# Altium integrated library Maxim Analog Switches and Multiplexers.IntLib: 11 symbols
Pins are listed as number, name and electrical type; pins without a type are passive.

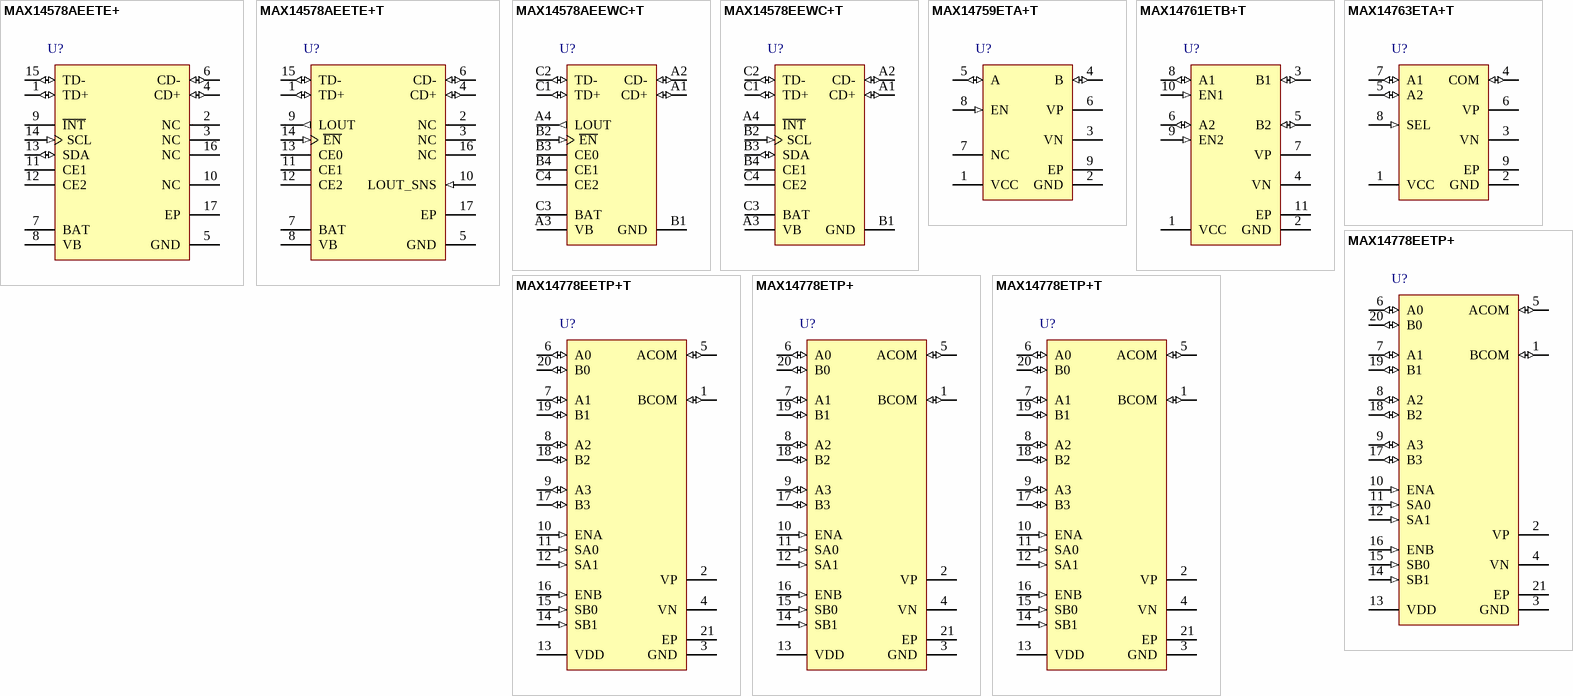
[diagram p0: symbols MAX14578AEETE+ to MAX14778ETP+T]

## MAX14578AEETE+
designator U?
USB Device Charger Detector, 16-Pin TQFN, -40°C to +85°C, Pb-Free; DatasheetVersion: Rev 1, Feb-2012; PackageVersion: revJ, 2010; PackageReference: T1633+5; PackageDescription: 16-Pin Thin Quad Flatpack, No Leads, 3 x 3 x 0.75 mm Body, 0.5 mm Pitch, TQFN, Pb-Free; Code_JEDEC: MO-220WEED-2; ComponentLink1Description: Manufacturer URL; ComponentLink1URL: http://www.maxim-ic.com; ComponentLink2Description: Datasheet; ComponentLink2URL: http://datasheets.maxim-ic.com/en/ds/MAX14578AE-MAX14578E.pdf; ComponentLink3Description: Package Specification; ComponentLink3URL: http://pdfserv.maxim-ic.com/package_dwgs/21-0136.PDF
footprint T1633+5_N (QFN, 16-Leads, Body 3x3mm, Pitch 0.5mm, Thermal Pad 1.1x1.1mm, IPC Medium Density)
footprint T1633+5_L (QFN, 16-Leads, Body 3x3mm, Pitch 0.5mm, Thermal Pad 1.1x1.1mm, IPC High Density)
footprint T1633+5_M (QFN, 16-Leads, Body 3x3mm, Pitch 0.5mm, Thermal Pad 1.1x1.1mm, IPC Low Density)
pins: 1 TD+ (io), 2 NC, 3 NC, 4 CD+ (io), 5 GND (power), 6 CD- (io), 7 BAT (power), 8 VB (power), 9 ~{INT} (oc), 10 NC, 11 CE1 (oc), 12 CE2 (oc), 13 SDA (io), 14 SCL (in), 15 TD- (io), 16 NC, 17 EP (power)

## MAX14578AEETE+T
designator U?
USB Device Charger Detector, 16-Pin TQFN, -40°C to +85°C, Pb-Free, Tape and Reel; DatasheetVersion: Rev 1, Feb-2012; PackageVersion: revJ, 2010; PackageReference: T1633+5; PackageDescription: 16-Pin Thin Quad Flatpack, No Leads, 3 x 3 x 0.75 mm Body, 0.5 mm Pitch, TQFN, Pb-Free; Code_JEDEC: MO-220WEED-2; ComponentLink1Description: Manufacturer URL; ComponentLink1URL: http://www.maxim-ic.com; ComponentLink2Description: Datasheet; ComponentLink2URL: http://datasheets.maxim-ic.com/en/ds/MAX14578AE-MAX14578E.pdf; ComponentLink3Description: Package Specification; ComponentLink3URL: http://pdfserv.maxim-ic.com/package_dwgs/21-0136.PDF
footprint T1633+5_N (QFN, 16-Leads, Body 3x3mm, Pitch 0.5mm, Thermal Pad 1.1x1.1mm, IPC Medium Density)
footprint T1633+5_L (QFN, 16-Leads, Body 3x3mm, Pitch 0.5mm, Thermal Pad 1.1x1.1mm, IPC High Density)
footprint T1633+5_M (QFN, 16-Leads, Body 3x3mm, Pitch 0.5mm, Thermal Pad 1.1x1.1mm, IPC Low Density)
pins: 1 TD+ (io), 2 NC, 3 NC, 4 CD+ (io), 5 GND (power), 6 CD- (io), 7 BAT (power), 8 VB (power), 9 LOUT (out), 10 LOUT_SNS (in), 11 CE1 (oc), 12 CE2 (oc), 13 CE0 (oc), 14 ~{EN} (in), 15 TD- (io), 16 NC, 17 EP (power)

## MAX14578AEEWC+T
designator U?
USB Device Charger Detector, 12-Pin WLP, -40°C to +85°C, Pb-Free, Tape and Reel; DatasheetVersion: Rev 1, Feb-2012; PackageVersion: revC, Apr-2010; PackageReference: W121A1+1; PackageDescription: 12-Bump Wafer-Level Package (WLP) 3x4 Bump, Full Array, 0.4 mm Pitch, Pb-Free; ComponentLink1Description: Manufacturer URL; ComponentLink1URL: http://www.maxim-ic.com; ComponentLink2Description: Datasheet; ComponentLink2URL: http://datasheets.maxim-ic.com/en/ds/MAX14578AE-MAX14578E.pdf; ComponentLink3Description: Package Specification; ComponentLink3URL: http://pdfserv.maxim-ic.com/package_dwgs/21-0449.PDF
footprint W121A1+1 (BGA, 12-Leads, Body 1.3x1.68mm, Pitch 0.4mm)
pins: A1 CD+ (io), A2 CD- (io), A3 VB (power), A4 LOUT (out), B1 GND (power), B2 ~{EN} (in), B3 CE0 (oc), B4 CE1 (oc), C1 TD+ (io), C2 TD- (io), C3 BAT (power), C4 CE2 (oc)

## MAX14578EEWC+T
designator U?
USB Device Charger Detector, 12-Pin WLP, -40°C to +85°C, Pb-Free, Tape and Reel; DatasheetVersion: Rev 1, Feb-2012; PackageVersion: revC, Apr-2010; PackageReference: W121A1+1; PackageDescription: 12-Bump Wafer-Level Package (WLP) 3x4 Bump, Full Array, 0.4 mm Pitch, Pb-Free; ComponentLink1Description: Manufacturer URL; ComponentLink1URL: http://www.maxim-ic.com; ComponentLink2Description: Datasheet; ComponentLink2URL: http://datasheets.maxim-ic.com/en/ds/MAX14578AE-MAX14578E.pdf; ComponentLink3Description: Package Specification; ComponentLink3URL: http://pdfserv.maxim-ic.com/package_dwgs/21-0449.PDF
footprint W121A1+1 (BGA, 12-Leads, Body 1.3x1.68mm, Pitch 0.4mm)
pins: A1 CD+ (io), A2 CD- (io), A3 VB (power), A4 ~{INT} (oc), B1 GND (power), B2 SCL (in), B3 SDA (io), B4 CE1 (oc), C1 TD+ (io), C2 TD- (io), C3 BAT (power), C4 CE2 (oc)

## MAX14759ETA+T
designator U?
Above and Below the Rails Low On-Resistance Analog Switch, Single SPST, 8-Pin TDFN-EP, -40°C to +85°C, Pb-Free, Tape and Reel; DatasheetVersion: Rev 0, Sep-2011; PackageVersion: revJ, 2009; PackageReference: T833+2; PackageDescription: 8-Pin Plastic Very Very Thin Dual Flatpack No Leads, Exposed Pad, 3 x 3 x 0.8 mm Body, TDFN-EP, Pb-Free; Code_JEDEC: MO-229-WEEC; ComponentLink1Description: Manufacturer URL; ComponentLink1URL: http://www.maxim-ic.com; ComponentLink2Description: Datasheet; ComponentLink2URL: http://datasheets.maxim-ic.com/en/ds/MAX14759-MAX14763.pdf; ComponentLink3Description: Package Specification; ComponentLink3URL: http://pdfserv.maxim-ic.com/package_dwgs/21-0137.PDF; ComponentLink4Description: URL Link1; ComponentLink4URL: http://pdfserv.maxim-ic.com/land_patterns/90-0059.PDF
footprint T833+2 (SON, 8-Leads, Body 3x3 mm, Pitch 0.65mm, Thermal Pad 2.35x1.58mm, Maxim Recommended)
pins: 1 VCC (power) "Positive-Supply Voltage Input. Bypass VCC to GND with a 0.1uF ceramic capacitor placed as close as possible to the device.", 2 GND (power) "Ground.", 3 VN "Negative Voltage Output. Bypass VN to GND with a 1uF ceramic capacitor placed as close as possible to the device.", 4 B (io) "Analog Switch Common Terminal.", 5 A (io) "Analog Switch Normally Open Terminal.", 6 VP "Positive Voltage Output. Bypass VP to GND with a 1uF ceramic capacitor placed as close as possible to the device.", 7 NC "No Connection. Leave unconnected.", 8 EN (in) "Switch Control Input. Drive EN high to close the switch or drive EN low to open the switch.", 9 EP "Exposed Pad. Internally connected to VN; not intended as an electrical connection. Leave exposed pad unconnected."

## MAX14761ETB+T
designator U?
Above and Below the Rails Low On-Resistance Analog Switch, Dual SPST, 10-Pin TDFN-EP, -40°C to +85°C, Pb-Free, Tape and Reel; DatasheetVersion: Rev 0, Sep-2011; PackageVersion: revJ, 2009; PackageReference: T1033+1; PackageDescription: 10-Pin Plastic Very Very Thin Dual Flatpack No Leads, Exposed Pad, 3 x 3 x 0.8 mm Body, TDFN-EP, Pb-Free; Code_JEDEC: MO-229-WEED-3; ComponentLink1Description: Manufacturer URL; ComponentLink1URL: http://www.maxim-ic.com; ComponentLink2Description: Datasheet; ComponentLink2URL: http://datasheets.maxim-ic.com/en/ds/MAX14759-MAX14763.pdf; ComponentLink3Description: Package Specification; ComponentLink3URL: http://pdfserv.maxim-ic.com/package_dwgs/21-0137.PDF
footprint T1033+1_V (SON, 10-Leads, Body 3x3mm, Pitch 0.5mm, Thermal Pad 2.35x1.58mm, Maxim Recommended)
pins: 1 VCC (power) "Positive-Supply Voltage Input. Bypass VCC to GND with a 0.1uF ceramic capacitor placed as close as possible to the device.", 2 GND (power) "Ground.", 3 B1 (io) "Analog Switch 1 Common Terminal.", 4 VN "Negative Voltage Output. Bypass VN to GND with a 1uF ceramic capacitor placed as close as possible to the device.", 5 B2 (io) "Analog Switch 2 Common Terminal.", 6 A2 (io) "Analog Switch 2 Normally Open Terminal.", 7 VP "Positive Voltage Output. Bypass VP to GND with a 1uF ceramic capacitor placed as close as possible to the device.", 8 A1 (io) "Analog Switch 1 Normally Closed Terminal.", 9 EN2 (in) "Switch 2 Control Input. Drive EN2 high to close switch 2 or drive EN2 low to open switch 2.", 10 EN1 (in) "Switch 1 Control Input. Drive EN1 high to open switch 1 or drive EN1 low to close switch 1.", 11 EP "Exposed Pad. Internally connected to VN; not intended as an electrical connection. Leave exposed pad unconnected."

## MAX14763ETA+T
designator U?
Above and Below the Rails Low On-Resistance Analog Switch, Single SPDT, 8-Pin TDFN-EP, -40°C to +85°C, Pb-Free, Tape and Reel; DatasheetVersion: Rev 0, Sep-2011; PackageVersion: revJ, 2009; PackageReference: T833+2; PackageDescription: 8-Pin Plastic Very Very Thin Dual Flatpack No Leads, Exposed Pad, 3 x 3 x 0.8 mm Body, TDFN-EP, Pb-Free; Code_JEDEC: MO-229-WEEC; ComponentLink1Description: Manufacturer URL; ComponentLink1URL: http://www.maxim-ic.com; ComponentLink2Description: Datasheet; ComponentLink2URL: http://datasheets.maxim-ic.com/en/ds/MAX14759-MAX14763.pdf; ComponentLink3Description: Package Specification; ComponentLink3URL: http://pdfserv.maxim-ic.com/package_dwgs/21-0137.PDF; ComponentLink4Description: URL Link1; ComponentLink4URL: http://pdfserv.maxim-ic.com/land_patterns/90-0059.PDF
footprint T833+2 (SON, 8-Leads, Body 3x3 mm, Pitch 0.65mm, Thermal Pad 2.35x1.58mm, Maxim Recommended)
pins: 1 VCC (power) "Positive-Supply Voltage Input. Bypass VCC to GND with a 0.1uF ceramic capacitor placed as close as possible to the device.", 2 GND (power) "Ground.", 3 VN "Negative Voltage Output. Bypass VN to GND with a 1uF ceramic capacitor placed as close as possible to the device.", 4 COM (io) "Analog Switch Common Terminal.", 5 A2 (io) "Analog Switch 2 Normally Open Terminal.", 6 VP "Positive Voltage Output. Bypass VP to GND with a 1uF ceramic capacitor placed as close as possible to the device.", 7 A1 (io) "Analog Switch 1 Normally Closed Terminal.", 8 SEL (in) "Switch Control Input. Drive SEL low to connect the COM terminal to A1 or drive SEL high to connect the COM terminal to A2.", 9 EP "Exposed Pad. Internally connected to VN; not intended as an electrical connection. Leave exposed pad unconnected."

## MAX14778EETP+
designator U?
Dual +/-25V Above and Below the Rails 4:1 Analog Multiplexer, 20-Pin TQFN, -40°C to +85°C, Pb-Free; DatasheetVersion: Rev 0, Jun-2011; PackageVersion: revO, 2011; PackageReference: T2055+4; PackageDescription: 20-Pin Thin Quad Flatpack, No Leads, 5 x 5 x 0.75 mm Body, 0.65 mm Pitch, TQFN, Pb-Free; Code_JEDEC: MO-220WHHC; ComponentLink1Description: Manufacturer URL; ComponentLink1URL: http://www.maxim-ic.com; ComponentLink2Description: Datasheet; ComponentLink2URL: http://datasheets.maxim-ic.com/en/ds/MAX14778.pdf; ComponentLink3Description: Package Specification; ComponentLink3URL: http://pdfserv.maxim-ic.com/package_dwgs/21-0140.PDF
footprint T2055-3_N (QFN, 20-Leads, Body 5x5mm, Pitch 0.65mm, Thermal Pad 3.2x3.2mm, IPC Medium Density)
footprint T2055-3_L (QFN, 20-Leads, Body 5x5mm, Pitch 0.65mm, Thermal Pad 3.2x3.2mm, IPC High Density)
footprint T2055-3_M (QFN, 20-Leads, Body 5x5mm, Pitch 0.65mm, Thermal Pad 3.2x3.2mm, IPC Low Density)
pins: 1 BCOM (io) "MUX B Common Terminal.", 2 VP "Positive Charge-Pump Output. Bypass VP to GND with a 1uF ceramic capacitor (35V or higher).", 3 GND (power) "Ground.", 4 VN "Negative Charge-Pump Output. Bypass VN to GND with a 1uF ceramic capacitor (30V or higher).", 5 ACOM (io) "MUX A Common Terminal.", 6 A0 (io) "MUX A Bidirectional Analog Input/Output 0.", 7 A1 (io) "MUX A Bidirectional Analog Input/Output 1.", 8 A2 (io) "MUX A Bidirectional Analog Input/Output 2.", 9 A3 (io) "MUX A Bidirectional Analog Input/Output 3.", 10 ENA (in) "MUX A Enable Input.", 11 SA0 (in) "MUX A Channel Select Input 0.", 12 SA1 (in) "MUX A Channel Select Input 1.", 13 VDD (power) "Power-Supply Input. Bypass VDD to GND with a 1uF ceramic capacitor.", 14 SB1 (in) "MUX B Channel Select Input 1.", 15 SB0 (in) "MUX B Channel Select Input 0.", 16 ENB (in) "MUX B Enable Input.", 17 B3 (io) "MUX B Bidirectional Analog Input/Output 3.", 18 B2 (io) "MUX B Bidirectional Analog Input/Output 2.", 19 B1 (io) "MUX B Bidirectional Analog Input/Output 1.", 20 B0 (io) "MUX B Bidirectional Analog Input/Output 0.", 21 EP "Exposed Pad. Connect EP to VN. EP is not intended as an electrical connection point."

## MAX14778EETP+T
designator U?
Dual +/-25V Above and Below the Rails 4:1 Analog Multiplexer, 20-Pin TQFN, -40°C to +85°C, Pb-Free, Tape and Reel; DatasheetVersion: Rev 0, Jun-2011; PackageVersion: revO, 2011; PackageReference: T2055+4; PackageDescription: 20-Pin Thin Quad Flatpack, No Leads, 5 x 5 x 0.75 mm Body, 0.65 mm Pitch, TQFN, Pb-Free; Code_JEDEC: MO-220WHHC; ComponentLink1Description: Manufacturer URL; ComponentLink1URL: http://www.maxim-ic.com; ComponentLink2Description: Datasheet; ComponentLink2URL: http://datasheets.maxim-ic.com/en/ds/MAX14778.pdf; ComponentLink3Description: Package Specification; ComponentLink3URL: http://pdfserv.maxim-ic.com/package_dwgs/21-0140.PDF
footprint T2055-3_N (QFN, 20-Leads, Body 5x5mm, Pitch 0.65mm, Thermal Pad 3.2x3.2mm, IPC Medium Density)
footprint T2055-3_L (QFN, 20-Leads, Body 5x5mm, Pitch 0.65mm, Thermal Pad 3.2x3.2mm, IPC High Density)
footprint T2055-3_M (QFN, 20-Leads, Body 5x5mm, Pitch 0.65mm, Thermal Pad 3.2x3.2mm, IPC Low Density)
pins: 1 BCOM (io) "MUX B Common Terminal.", 2 VP "Positive Charge-Pump Output. Bypass VP to GND with a 1uF ceramic capacitor (35V or higher).", 3 GND (power) "Ground.", 4 VN "Negative Charge-Pump Output. Bypass VN to GND with a 1uF ceramic capacitor (30V or higher).", 5 ACOM (io) "MUX A Common Terminal.", 6 A0 (io) "MUX A Bidirectional Analog Input/Output 0.", 7 A1 (io) "MUX A Bidirectional Analog Input/Output 1.", 8 A2 (io) "MUX A Bidirectional Analog Input/Output 2.", 9 A3 (io) "MUX A Bidirectional Analog Input/Output 3.", 10 ENA (in) "MUX A Enable Input.", 11 SA0 (in) "MUX A Channel Select Input 0.", 12 SA1 (in) "MUX A Channel Select Input 1.", 13 VDD (power) "Power-Supply Input. Bypass VDD to GND with a 1uF ceramic capacitor.", 14 SB1 (in) "MUX B Channel Select Input 1.", 15 SB0 (in) "MUX B Channel Select Input 0.", 16 ENB (in) "MUX B Enable Input.", 17 B3 (io) "MUX B Bidirectional Analog Input/Output 3.", 18 B2 (io) "MUX B Bidirectional Analog Input/Output 2.", 19 B1 (io) "MUX B Bidirectional Analog Input/Output 1.", 20 B0 (io) "MUX B Bidirectional Analog Input/Output 0.", 21 EP "Exposed Pad. Connect EP to VN. EP is not intended as an electrical connection point."

## MAX14778ETP+
designator U?
Dual +/-25V Above and Below the Rails 4:1 Analog Multiplexer, 20-Pin TQFN, -40°C to +85°C, Pb-Free; DatasheetVersion: Rev 0, Jun-2011; PackageVersion: revO, 2011; PackageReference: T2055+4; PackageDescription: 20-Pin Thin Quad Flatpack, No Leads, 5 x 5 x 0.75 mm Body, 0.65 mm Pitch, TQFN, Pb-Free; Code_JEDEC: MO-220WHHC; ComponentLink1Description: Manufacturer URL; ComponentLink1URL: http://www.maxim-ic.com; ComponentLink2Description: Datasheet; ComponentLink2URL: http://datasheets.maxim-ic.com/en/ds/MAX14778.pdf; ComponentLink3Description: Package Specification; ComponentLink3URL: http://pdfserv.maxim-ic.com/package_dwgs/21-0140.PDF
footprint T2055-3_N (QFN, 20-Leads, Body 5x5mm, Pitch 0.65mm, Thermal Pad 3.2x3.2mm, IPC Medium Density)
footprint T2055-3_L (QFN, 20-Leads, Body 5x5mm, Pitch 0.65mm, Thermal Pad 3.2x3.2mm, IPC High Density)
footprint T2055-3_M (QFN, 20-Leads, Body 5x5mm, Pitch 0.65mm, Thermal Pad 3.2x3.2mm, IPC Low Density)
pins: 1 BCOM (io) "MUX B Common Terminal.", 2 VP "Positive Charge-Pump Output. Bypass VP to GND with a 1uF ceramic capacitor (35V or higher).", 3 GND (power) "Ground.", 4 VN "Negative Charge-Pump Output. Bypass VN to GND with a 1uF ceramic capacitor (30V or higher).", 5 ACOM (io) "MUX A Common Terminal.", 6 A0 (io) "MUX A Bidirectional Analog Input/Output 0.", 7 A1 (io) "MUX A Bidirectional Analog Input/Output 1.", 8 A2 (io) "MUX A Bidirectional Analog Input/Output 2.", 9 A3 (io) "MUX A Bidirectional Analog Input/Output 3.", 10 ENA (in) "MUX A Enable Input.", 11 SA0 (in) "MUX A Channel Select Input 0.", 12 SA1 (in) "MUX A Channel Select Input 1.", 13 VDD (power) "Power-Supply Input. Bypass VDD to GND with a 1uF ceramic capacitor.", 14 SB1 (in) "MUX B Channel Select Input 1.", 15 SB0 (in) "MUX B Channel Select Input 0.", 16 ENB (in) "MUX B Enable Input.", 17 B3 (io) "MUX B Bidirectional Analog Input/Output 3.", 18 B2 (io) "MUX B Bidirectional Analog Input/Output 2.", 19 B1 (io) "MUX B Bidirectional Analog Input/Output 1.", 20 B0 (io) "MUX B Bidirectional Analog Input/Output 0.", 21 EP "Exposed Pad. Connect EP to VN. EP is not intended as an electrical connection point."

## MAX14778ETP+T
designator U?
Dual +/-25V Above and Below the Rails 4:1 Analog Multiplexer, 20-Pin TQFN, -40°C to +85°C, Pb-Free, Tape and Reel; DatasheetVersion: Rev 0, Jun-2011; PackageVersion: revO, 2011; PackageReference: T2055+4; PackageDescription: 20-Pin Thin Quad Flatpack, No Leads, 5 x 5 x 0.75 mm Body, 0.65 mm Pitch, TQFN, Pb-Free; Code_JEDEC: MO-220WHHC; ComponentLink1Description: Manufacturer URL; ComponentLink1URL: http://www.maxim-ic.com; ComponentLink2Description: Datasheet; ComponentLink2URL: http://datasheets.maxim-ic.com/en/ds/MAX14778.pdf; ComponentLink3Description: Package Specification; ComponentLink3URL: http://pdfserv.maxim-ic.com/package_dwgs/21-0140.PDF
footprint T2055-3_N (QFN, 20-Leads, Body 5x5mm, Pitch 0.65mm, Thermal Pad 3.2x3.2mm, IPC Medium Density)
footprint T2055-3_L (QFN, 20-Leads, Body 5x5mm, Pitch 0.65mm, Thermal Pad 3.2x3.2mm, IPC High Density)
footprint T2055-3_M (QFN, 20-Leads, Body 5x5mm, Pitch 0.65mm, Thermal Pad 3.2x3.2mm, IPC Low Density)
pins: 1 BCOM (io) "MUX B Common Terminal.", 2 VP "Positive Charge-Pump Output. Bypass VP to GND with a 1uF ceramic capacitor (35V or higher).", 3 GND (power) "Ground.", 4 VN "Negative Charge-Pump Output. Bypass VN to GND with a 1uF ceramic capacitor (30V or higher).", 5 ACOM (io) "MUX A Common Terminal.", 6 A0 (io) "MUX A Bidirectional Analog Input/Output 0.", 7 A1 (io) "MUX A Bidirectional Analog Input/Output 1.", 8 A2 (io) "MUX A Bidirectional Analog Input/Output 2.", 9 A3 (io) "MUX A Bidirectional Analog Input/Output 3.", 10 ENA (in) "MUX A Enable Input.", 11 SA0 (in) "MUX A Channel Select Input 0.", 12 SA1 (in) "MUX A Channel Select Input 1.", 13 VDD (power) "Power-Supply Input. Bypass VDD to GND with a 1uF ceramic capacitor.", 14 SB1 (in) "MUX B Channel Select Input 1.", 15 SB0 (in) "MUX B Channel Select Input 0.", 16 ENB (in) "MUX B Enable Input.", 17 B3 (io) "MUX B Bidirectional Analog Input/Output 3.", 18 B2 (io) "MUX B Bidirectional Analog Input/Output 2.", 19 B1 (io) "MUX B Bidirectional Analog Input/Output 1.", 20 B0 (io) "MUX B Bidirectional Analog Input/Output 0.", 21 EP "Exposed Pad. Connect EP to VN. EP is not intended as an electrical connection point."